# EAGLE library part MINI-LCD-16X2 (library userlib)
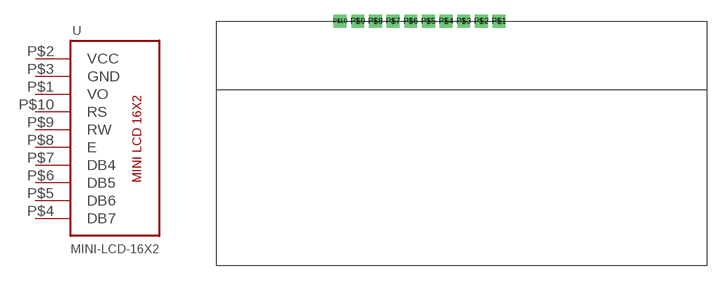
[diagram p3: symbol with the pads of MINI-LCD-16X2; footprint MINI-LCD-16X2]

Designator prefix -

## MINI-LCD-16X2  [MINI-LCD-16X2]
P$1  VO
P$2  VCC  pwr
P$3  GND  pwr
P$4  DB7
P$5  DB6
P$6  DB5
P$7  DB4
P$8  E  in
P$9  RW  in
P$10  RS  in

## Footprint MINI-LCD-16X2 (pad centres in mm)
drill 0.8 square: P$1 28.8,0; P$2 27,0; P$3 25.2,0; P$4 23.4,0; P$5 21.6,0; P$6 19.8,0; P$7 18,0; P$8 16.2,0; P$9 14.4,0; P$10 12.6,0